# EAGLE library part STLINK2 (library karls-parts-2016-09)
STLink/v2 connector 6 pin inline header for SWD, as used on STM32 Discovery boards. (Except the 32VL discovery board, which only has the top 4 pins)
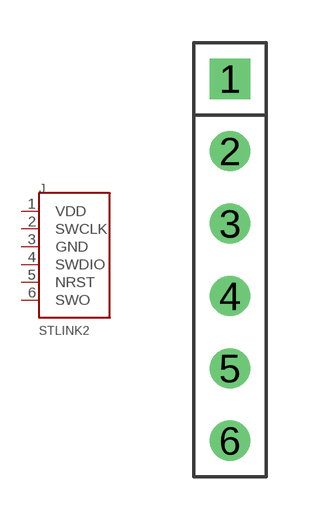
[diagram p1: symbol with the pads of STLINK2; footprint STLINK2]

Designator prefix J

## STLINK2  [STLINK2]
1  VDD  pwr
2  SWCLK
3  GND  pwr
4  SWDIO
5  NRST
6  SWO

## Footprint STLINK2 (pad centres in mm)
STLink/v2 connector 6 pin inline header for SWD, as used on STM32 Discovery boards. (Except the 32VL discovery board, which only has the top 4 pins)
drill 0.9 square: 1 0,5.08
drill 0.9: 2 0,2.54; 3 0,0; 4 0,-2.54; 5 0,-5.08; 6 0,-7.62